# Altium footprint library Fuse_Holder.PcbLib: 1 footprints
Each footprint in its own frame and in the unit in brackets; x right, y up, seen from the top. Pads: shape width x height; smd on the part's side, far side on the other; paste and mask are expansions set on the pad; w line width, h text height; cw(c..) or ccw(c..) is an arc to the next point about the centre after c.
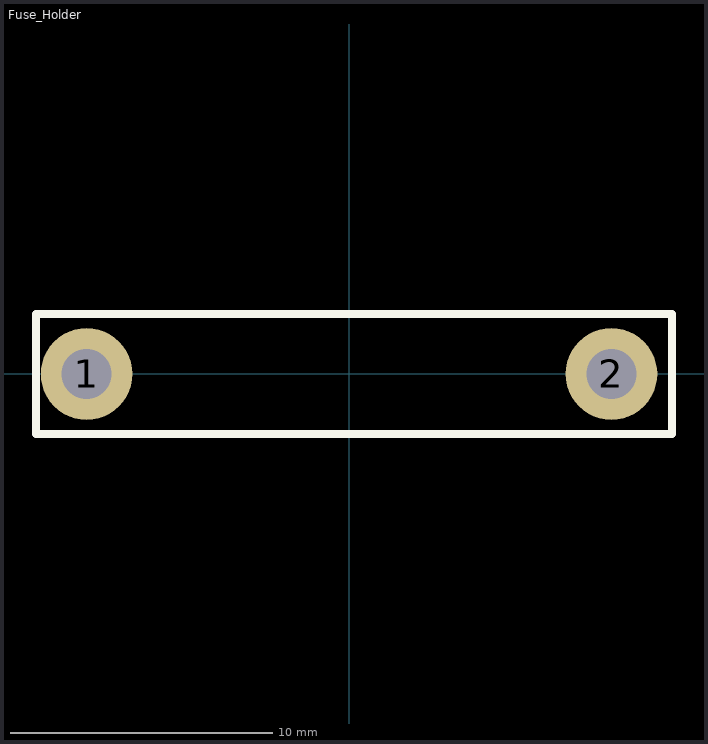
[diagram p0: the footprint, top view; thin cyan lines are the x and y axes]

## Fuse_Holder [mm]
pads (2):
  round 3.5 hole 1.9: 1(-10,0) 2(10,0)
Top Overlay:
  lines w0.3: -11.938,-2.286 12.319,-2.286 12.319,2.286 -11.938,2.286 -11.938,-2.286
3D body "Fuse Holder.SLDPRT": height 16.1, standoff -1.7, extent -14.262,-5.047 12.738,4.953